# EAGLE library part TDA7293V_TDA7293V (library ballistic-amp)
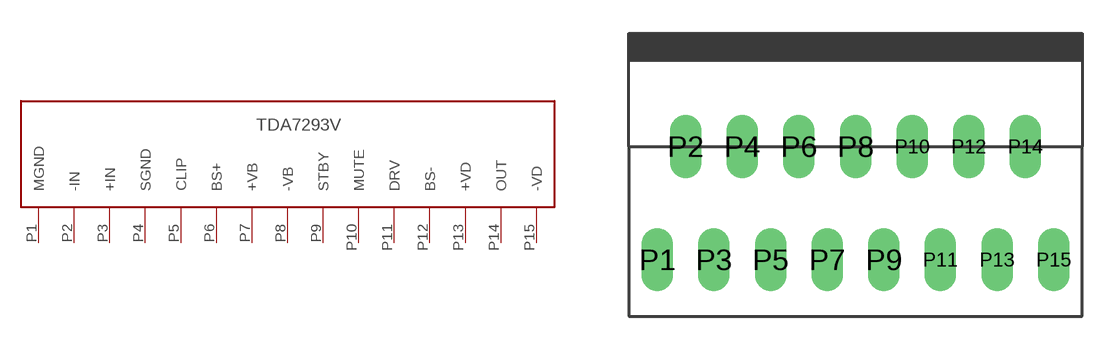
[diagram p0: symbol with the pads of TDA7293V_TDA7293V; footprint TDA7293V_TDA7293V]

Designator prefix -

## TDA7293V_TDA7293V  [TDA7293V_TDA7293V]
P1  MGND
P2  -IN
P3  +IN
P4  SGND
P5  CLIP
P6  BS+
P7  +VB
P8  -VB
P9  STBY
P10  MUTE
P11  DRV
P12  BS-
P13  +VD
P14  OUT
P15  -VD

## Footprint TDA7293V_TDA7293V (pad centres in mm)
drill 0.7 pad 1.422 long: P1 1.27,-5.08; P2 2.54,0; P3 3.81,-5.08; P4 5.08,0; P5 6.35,-5.08; P6 7.62,0; P7 8.89,-5.08; P8 10.16,0; P9 11.43,-5.08; P10 12.7,0; P11 13.97,-5.08; P12 15.24,0; P13 16.51,-5.08; P14 17.78,0; P15 19.05,-5.08